# Altium footprint library 2020-01-24_03-25-30.PcbLib: 3 footprints
Each footprint in its own frame and in the unit in brackets; x right, y up, seen from the top. Pads: shape width x height; smd on the part's side, far side on the other; paste and mask are expansions set on the pad; w line width, h text height; cw(c..) or ccw(c..) is an arc to the next point about the centre after c.
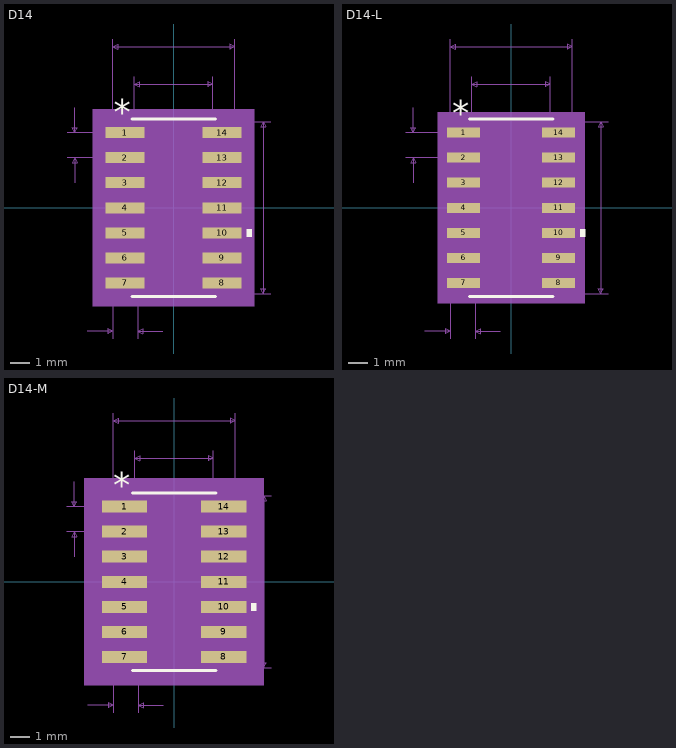
[diagram p0: the footprints below, top view; thin cyan lines are the x and y axes]

## D14 [mil]
pads (14):
  rect 78x22 smd: 1(-97,150) 2(-97,100) 3(-97,50) 4(-97,0) 5(-97,-50) 6(-97,-100) 7(-97,-150) 8(97,-150) 9(97,-100) 10(97,-50) 11(97,0) 12(97,50) 13(97,100) 14(97,150)
Top Overlay:
  region: 146,-42.5 156,-42.5 156,-57.5 146,-57.5
  lines w6: -83.5,-177 83.5,-177 ; -83.5,177 83.5,177
  text "*" at -119.5,167 h50
Mechanical 5:
  region: 161,-197 -161,-197 -161,197 161,197
Mechanical 7:
  lines w1: -212,100 -97,100 ; -212,150 -97,150 ; -197,50 -197,100 ; -197,200 -197,150 ; -172,-247 -122,-247 ; -122,-262 -122,0 -122,337 ; -78.5,0 -78.5,262 ; -72,-262 -72,0 ; -22,-247 -72,-247 ; 0,-172 193.5,-172 ; 0,172 193.5,172 ; 78.5,0 78.5,262 ; 122,0 122,337 ; -197,100 -202,90 -192,90 -197,100 ; -197,150 -202,160 -192,160 -197,150 ; -122,-247 -132,-242 -132,-252 -122,-247 ; -122,322 122,322 ; -122,322 -112,327 -112,317 -122,322 ; -78.5,247 78.5,247 ; -78.5,247 -68.5,252 -68.5,242 -78.5,247 ; -72,-247 -62,-242 -62,-252 -72,-247 ; 78.5,247 68.5,252 68.5,242 78.5,247 ; 122,322 112,327 112,317 122,322 ; 178.5,-172 178.5,172 ; 178.5,-172 173.5,-162 183.5,-162 178.5,-172 ; 178.5,172 173.5,162 183.5,162 178.5,172
  text "Default Padstyle: RX78Y22D0T" at -350,-372 h50
  text "Pin One Padstyle: RX78Y22D0T" at -350,-432 h50
  text "Alt 1 Padstyle: OX60Y90D30P" at -337.5,-612 h50
  text "Alt 2 Padstyle: OX90Y60D30P" at -337.5,-672 h50
  text "0.157in/3.988mm" at -93.75,267 h25
  text "0.244in/6.198mm" at -93.75,342 h25
  text "0.344in/8.738mm" at 198.5,-12.5 h25
  text "0.05in/1.27mm" at -379.5,112.5 h25
  text "0.05in/1.27mm" at -178.25,-292 h25
Mechanical 13:
  lines w0: -12,172 ccw(c0,172) 12,172
  lines w1: -122,-160 -122,-140 -78.5,-140 -78.5,-160 -122,-160 ; -122,-110 -122,-90 -78.5,-90 -78.5,-110 -122,-110 ; -122,-60 -122,-40 -78.5,-40 -78.5,-60 -122,-60 ; -122,-10 -122,10 -78.5,10 -78.5,-10 -122,-10 ; -122,40 -122,60 -78.5,60 -78.5,40 -122,40 ; -122,90 -122,110 -78.5,110 -78.5,90 -122,90 ; -122,140 -122,160 -78.5,160 -78.5,140 -122,140 ; -78.5,-172 78.5,-172 78.5,172 -78.5,172 -78.5,-172 ; 78.5,-160 78.5,-140 122,-140 122,-160 78.5,-160 ; 78.5,-110 78.5,-90 122,-90 122,-110 78.5,-110 ; 78.5,-60 78.5,-40 122,-40 122,-60 78.5,-60 ; 78.5,-10 78.5,10 122,10 122,-10 78.5,-10 ; 78.5,40 78.5,60 122,60 122,40 78.5,40 ; 78.5,90 78.5,110 122,110 122,90 78.5,90 ; 78.5,140 78.5,160 122,160 122,140 78.5,140
  text "*" at -76,119 h50
Mechanical 15:
  region: -88.5,-171 -146,-171 -146,171 -88.5,171 -88.5,182 88.5,182 88.5,171 146,171 146,-171 88.5,-171 88.5,-182 -88.5,-182
  lines w6: -146,-171 -146,171 -88.5,171 -88.5,182 88.5,182 88.5,171 146,171 146,-171 88.5,-171 88.5,-182 -88.5,-182 -88.5,-171 -146,-171
3D body: height 10, standoff 0, extent 0,0 10,10

## D14-L [mil]
pads (14):
  rect 66x20 smd paste+0 mask+0: 1(-95,150) 2(-95,100) 3(-95,50) 4(-95,0) 5(-95,-50) 6(-95,-100) 7(-95,-150) 8(95,-150) 9(95,-100) 10(95,-50) 11(95,0) 12(95,50) 13(95,100) 14(95,150)
Top Overlay:
  region: 138,-42.5 148,-42.5 148,-57.5 138,-57.5
  lines w6: -83.5,-177 83.5,-177 ; -83.5,177 83.5,177
  text "*" at -117.5,165 h50
Mechanical 5:
  region: 147,-191 -147,-191 -147,191 147,191
Mechanical 7:
  lines w1: -210,100 -95,100 ; -210,150 -95,150 ; -195,50 -195,100 ; -195,200 -195,150 ; -172,-247 -122,-247 ; -122,-262 -122,0 -122,337 ; -78.5,0 -78.5,262 ; -72,-262 -72,0 ; -22,-247 -72,-247 ; 0,-172 193.5,-172 ; 0,172 193.5,172 ; 78.5,0 78.5,262 ; 122,0 122,337 ; -195,100 -200,90 -190,90 -195,100 ; -195,150 -200,160 -190,160 -195,150 ; -122,-247 -132,-242 -132,-252 -122,-247 ; -122,322 122,322 ; -122,322 -112,327 -112,317 -122,322 ; -78.5,247 78.5,247 ; -78.5,247 -68.5,252 -68.5,242 -78.5,247 ; -72,-247 -62,-242 -62,-252 -72,-247 ; 78.5,247 68.5,252 68.5,242 78.5,247 ; 122,322 112,327 112,317 122,322 ; 178.5,-172 178.5,172 ; 178.5,-172 173.5,-162 183.5,-162 178.5,-172 ; 178.5,172 173.5,162 183.5,162 178.5,172
  text "Default Padstyle: RX66Y20D0T" at -350,-372 h50
  text "Pin One Padstyle: RX66Y20D0T" at -350,-432 h50
  text "Alt 1 Padstyle: OX60Y90D30P" at -337.5,-612 h50
  text "Alt 2 Padstyle: OX90Y60D30P" at -337.5,-672 h50
  text "0.157in/3.988mm" at -93.75,267 h25
  text "0.244in/6.198mm" at -93.75,342 h25
  text "0.344in/8.738mm" at 198.5,-12.5 h25
  text "0.05in/1.27mm" at -377.5,112.5 h25
  text "0.05in/1.27mm" at -178.25,-292 h25
Mechanical 13:
  lines w0: -12,172 ccw(c0,172) 12,172
  lines w1: -122,-160 -122,-140 -78.5,-140 -78.5,-160 -122,-160 ; -122,-110 -122,-90 -78.5,-90 -78.5,-110 -122,-110 ; -122,-60 -122,-40 -78.5,-40 -78.5,-60 -122,-60 ; -122,-10 -122,10 -78.5,10 -78.5,-10 -122,-10 ; -122,40 -122,60 -78.5,60 -78.5,40 -122,40 ; -122,90 -122,110 -78.5,110 -78.5,90 -122,90 ; -122,140 -122,160 -78.5,160 -78.5,140 -122,140 ; -78.5,-172 78.5,-172 78.5,172 -78.5,172 -78.5,-172 ; 78.5,-160 78.5,-140 122,-140 122,-160 78.5,-160 ; 78.5,-110 78.5,-90 122,-90 122,-110 78.5,-110 ; 78.5,-60 78.5,-40 122,-40 122,-60 78.5,-60 ; 78.5,-10 78.5,10 122,10 122,-10 78.5,-10 ; 78.5,40 78.5,60 122,60 122,40 78.5,40 ; 78.5,90 78.5,110 122,110 122,90 78.5,90 ; 78.5,140 78.5,160 122,160 122,140 78.5,140
  text "*" at -76,119 h50
Mechanical 15:
  region: -82.5,-164 -132,-164 -132,164 -82.5,164 -82.5,176 82.5,176 82.5,164 132,164 132,-164 82.5,-164 82.5,-176 -82.5,-176
  lines w6: -132,-164 -132,164 -82.5,164 -82.5,176 82.5,176 82.5,164 132,164 132,-164 82.5,-164 82.5,-176 -82.5,-176 -82.5,-164 -132,-164
3D body: height 10, standoff 0, extent 0,0 10,10

## D14-M [mil]
pads (14):
  rect 90x24 smd paste+0 mask+0: 1(-99,150) 2(-99,100) 3(-99,50) 4(-99,0) 5(-99,-50) 6(-99,-100) 7(-99,-150) 8(99,-150) 9(99,-100) 10(99,-50) 11(99,0) 12(99,50) 13(99,100) 14(99,150)
Top Overlay:
  region: 154,-42.5 164,-42.5 164,-57.5 154,-57.5
  lines w6: -83.5,-177 83.5,-177 ; -83.5,177 83.5,177
  text "*" at -121.5,169 h50
Mechanical 5:
  region: 179,-207 -179,-207 -179,207 179,207
Mechanical 7:
  lines w1: -214,100 -99,100 ; -214,150 -99,150 ; -199,50 -199,100 ; -199,200 -199,150 ; -172,-247 -122,-247 ; -122,-262 -122,0 -122,337 ; -78.5,0 -78.5,262 ; -72,-262 -72,0 ; -22,-247 -72,-247 ; 0,-172 193.5,-172 ; 0,172 193.5,172 ; 78.5,0 78.5,262 ; 122,0 122,337 ; -199,100 -204,90 -194,90 -199,100 ; -199,150 -204,160 -194,160 -199,150 ; -122,-247 -132,-242 -132,-252 -122,-247 ; -122,322 122,322 ; -122,322 -112,327 -112,317 -122,322 ; -78.5,247 78.5,247 ; -78.5,247 -68.5,252 -68.5,242 -78.5,247 ; -72,-247 -62,-242 -62,-252 -72,-247 ; 78.5,247 68.5,252 68.5,242 78.5,247 ; 122,322 112,327 112,317 122,322 ; 178.5,-172 178.5,172 ; 178.5,-172 173.5,-162 183.5,-162 178.5,-172 ; 178.5,172 173.5,162 183.5,162 178.5,172
  text "Default Padstyle: RX90Y24D0T" at -350,-372 h50
  text "Pin One Padstyle: RX90Y24D0T" at -350,-432 h50
  text "Alt 1 Padstyle: OX60Y90D30P" at -337.5,-612 h50
  text "Alt 2 Padstyle: OX90Y60D30P" at -337.5,-672 h50
  text "0.157in/3.988mm" at -93.75,267 h25
  text "0.244in/6.198mm" at -93.75,342 h25
  text "0.344in/8.738mm" at 198.5,-12.5 h25
  text "0.05in/1.27mm" at -381.5,112.5 h25
  text "0.05in/1.27mm" at -178.25,-292 h25
Mechanical 13:
  lines w0: -12,172 ccw(c0,172) 12,172
  lines w1: -122,-160 -122,-140 -78.5,-140 -78.5,-160 -122,-160 ; -122,-110 -122,-90 -78.5,-90 -78.5,-110 -122,-110 ; -122,-60 -122,-40 -78.5,-40 -78.5,-60 -122,-60 ; -122,-10 -122,10 -78.5,10 -78.5,-10 -122,-10 ; -122,40 -122,60 -78.5,60 -78.5,40 -122,40 ; -122,90 -122,110 -78.5,110 -78.5,90 -122,90 ; -122,140 -122,160 -78.5,160 -78.5,140 -122,140 ; -78.5,-172 78.5,-172 78.5,172 -78.5,172 -78.5,-172 ; 78.5,-160 78.5,-140 122,-140 122,-160 78.5,-160 ; 78.5,-110 78.5,-90 122,-90 122,-110 78.5,-110 ; 78.5,-60 78.5,-40 122,-40 122,-60 78.5,-60 ; 78.5,-10 78.5,10 122,10 122,-10 78.5,-10 ; 78.5,40 78.5,60 122,60 122,40 78.5,40 ; 78.5,90 78.5,110 122,110 122,90 78.5,90 ; 78.5,140 78.5,160 122,160 122,140 78.5,140
  text "*" at -76,119 h50
Mechanical 15:
  region: -98.5,-182 -164,-182 -164,182 -98.5,182 -98.5,192 98.5,192 98.5,182 164,182 164,-182 98.5,-182 98.5,-192 -98.5,-192
  lines w6: -164,-182 -164,182 -98.5,182 -98.5,192 98.5,192 98.5,182 164,182 164,-182 98.5,-182 98.5,-192 -98.5,-192 -98.5,-182 -164,-182
3D body: height 10, standoff 0, extent 0,0 10,10